# EAGLE library part TERM9.5 (library os1)
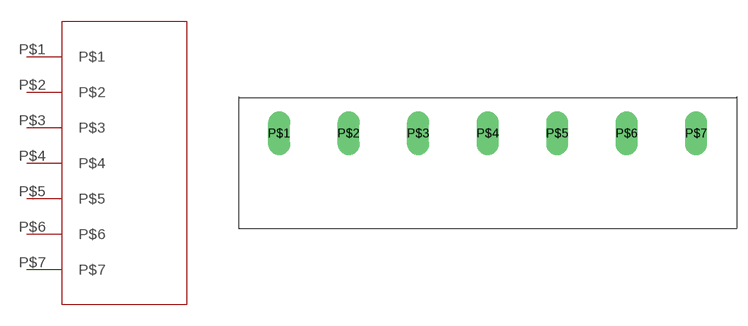
[diagram p1: symbol with the pads of TERMINAL9500; footprint TERMINAL9500]

Designator prefix -

## TERM9.5  [TERMINAL9500]
P$1  P$1
P$2  P$2
P$3  P$3
P$4  P$4
P$5  P$5
P$6  P$6
P$7  P$7

## Footprint TERMINAL9500 (pad centres in mm)
drill 2 long: P$1 0,0; P$2 9.5,0; P$3 19,0; P$4 28.5,0; P$5 38,0; P$6 47.5,0; P$7 57,0